# Altium footprint library PCB_LIB.PcbLib: 86 footprints (part 6 of 6)
Each footprint in its own frame and in the unit in brackets; x right, y up, seen from the top. Pads: shape width x height; smd on the part's side, far side on the other; paste and mask are expansions set on the pad; w line width, h text height; cw(c..) or ccw(c..) is an arc to the next point about the centre after c.
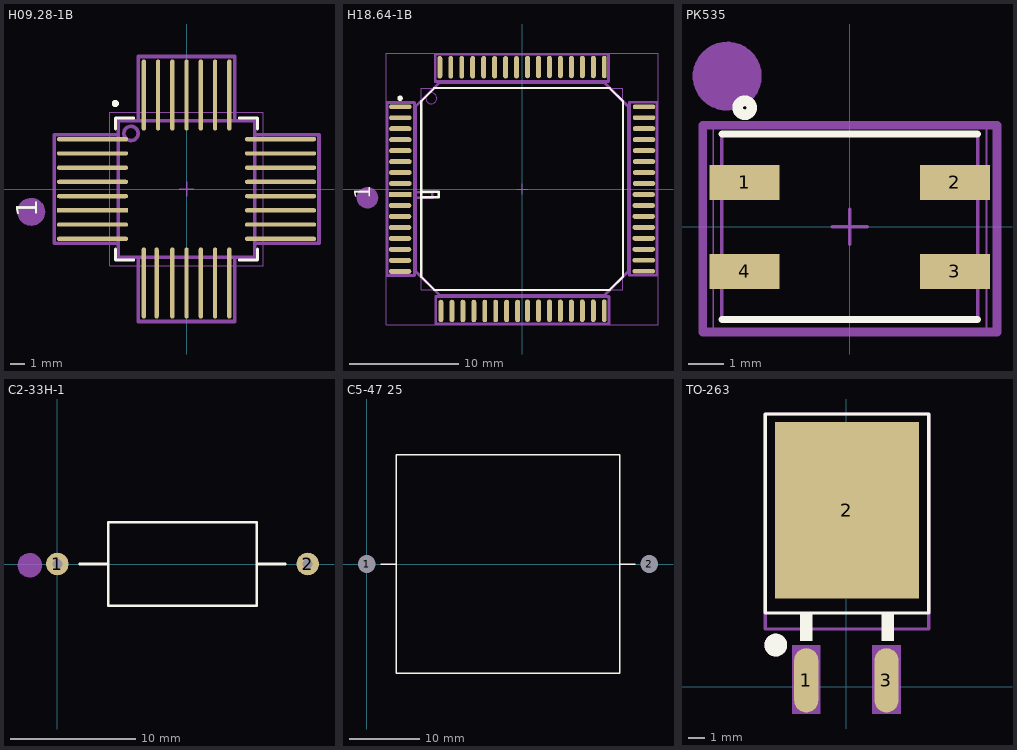
[diagram p5: the footprints below, top view; thin cyan lines are the x and y axes]

## Н09.28-1В [mm] "QFN, 30-Leads, Body 9,39x9,39mm, Pitch 1,00mm, IPC Medium Density"
height 2.9
pads (30):
  rect 5x0.3 smd: 1(-6.6,-1.5)
  oval 5x0.3 smd: 2(-6.6,-2.5) 3(-6.6,-3.5) 11(6.6,-2.5) 12(6.6,-1.5) 13(6.6,-0.5) 14(6.6,0.5) 15(6.6,1.5) 16(6.6,2.5) 17(6.6,3.5) 25(-6.6,2.5) 26(-6.6,1.5) 27(-6.6,0.5) 28(-6.6,-0.5) ""(-6.6,3.5) ""(6.6,-3.5)
  oval 0.3x5 smd: 4(-3,-6.6) 5(-2.1,-6.6) 6(-1,-6.6) 7(0,-6.6) 8(1,-6.6) 9(2,-6.6) 10(3,-6.6) 18(3,6.6) 19(2,6.6) 20(1,6.6) 21(0,6.6) 22(-1,6.6) 23(-2,6.6) 24(-3,6.6)
Top Overlay:
  circle w0.25: c-5,6 r0.125
  lines w0.2: -4.98,-4.2 -4.98,-4.98 -3.7,-4.98 ; -4.98,4.2 -4.98,4.98 -3.7,4.98 ; 3.7,-4.98 4.98,-4.98 4.98,-4.2 ; 3.7,4.98 4.98,4.98 4.98,4.2
  text "1" at -10,-2 h2.5
Top Sborka:
  circle w0.25: c-10.9,-1.6 r0.704
  circle w0.25: c-10.9,-1.6 r0.292
  circle w0.25: c-10.9,-1.6 r0.861
  circle w0.25: c-10.9,-1.6 r0.506
  circle w0.25: c-10.9,-1.6 r0.09
  circle w0.25: c-3.9,3.9 r0.5
  circle w0.8: c-10.9,-1.6 r0.4
  lines w0.25: -9.3,-3.8 -4.8,-3.8 -4.8,3.8 -9.3,3.8 -9.3,-3.8 ; -4.8,-4.8 4.8,-4.8 4.8,4.8 -4.8,4.8 -4.8,-4.8 ; -3.4,-9.3 -3.4,-4.8 3.4,-4.8 3.4,-9.3 -3.4,-9.3 ; -3.4,4.8 -3.4,9.3 3.4,9.3 3.4,4.8 -3.4,4.8 ; 4.8,-3.8 9.3,-3.8 9.3,3.8 4.8,3.8 4.8,-3.8
Mechanical 13:
  circle w0.1: c-3.93,3.93 r0.5
  lines w0.1: -4.83,-4.83 4.83,-4.83 4.83,4.83 -4.83,4.83 -4.83,-4.83
Mechanical 15:
  lines w0.05: -5.375,-5.375 5.375,-5.375 5.375,5.375 -5.375,5.375 -5.375,-5.375
  lines w0.1: -0.5,0 0.5,0 ; 0,-0.5 0,0.5
Top Designator (Mech16):
  text ".Designator" at -5.15,-0.547 h2.5
3D body: height 2.9, standoff 0.2, extent -4.83,-4.83 4.83,4.83

## Н18.64-1В [mm] "CQFP, 64-Leads, Body 23,40x23,40mm, Pitch 1,00mm, IPC Medium Density"
height 2.9
pads (64):
  rect 2.05x0.45 smd: 1(-11.125,-0.508)
  oval 2.05x0.45 smd: 2(-11.125,-1.508) 3(-11.125,-2.508) 4(-11.125,-3.508) 5(-11.125,-4.508) 6(-11.125,-5.508) 7(-11.125,-6.508) 8(-11.125,-7.508) 25(11.1,-7.5) 26(11.1,-6.5) 27(11.1,-5.5) 28(11.1,-4.5) 29(11.1,-3.5) 30(11.1,-2.5) 31(11.1,-1.5) 32(11.1,-0.5) 33(11.125,0.5) 34(11.125,1.5) 35(11.125,2.5) 36(11.125,3.5) 37(11.125,4.5) 38(11.125,5.5) 39(11.125,6.5) 40(11.125,7.5) 57(-11.1,7.5) 58(-11.1,6.5) 59(-11.1,5.5) 60(-11.1,4.5) 61(-11.1,3.5) 62(-11.1,2.5) 63(-11.1,1.5) 64(-11.1,0.5)
  oval 0.45x2.05 smd: 9(-7.4,-11.125) 10(-6.4,-11.125) 11(-5.4,-11.125) 12(-4.4,-11.125) 13(-3.4,-11.125) 14(-2.4,-11.125) 15(-1.4,-11.125) 16(-0.4,-11.125) 17(0.5,-11.1) 18(1.5,-11.1) 19(2.5,-11.1) 20(3.5,-11.1) 21(4.5,-11.1) 22(5.5,-11.1) 23(6.5,-11.1) 24(7.5,-11.1) 41(7.5,11.125) 42(6.5,11.125) 43(5.5,11.125) 44(4.5,11.125) 45(3.5,11.125) 46(2.5,11.125) 47(1.5,11.125) 48(0.5,11.125) 49(-0.5,11.1) 50(-1.5,11.1) 51(-2.5,11.1) 52(-3.5,11.1) 53(-4.5,11.1) 54(-5.5,11.1) 55(-6.5,11.1) 56(-7.5,11.1)
Top Overlay:
  circle w0.25: c-11.125,8.275 r0.125
  lines w0.2: -9.1,-0.75 -7.6,-0.75 -7.6,-0.25 -9.1,-0.25 ; -9.2,-8 -8,-9.2 8,-9.2 9.2,-8 9.2,8 8,9.2 -8,9.2 -9.2,8 -9.2,-8
  text "1" at -13.325,-0.929 h2.5
Top Sborka:
  circle w0.25: c-14.1,-0.8 r0.09
  circle w0.25: c-14.1,-0.8 r0.506
  circle w0.25: c-14.1,-0.8 r0.861
  circle w0.25: c-14.1,-0.8 r0.292
  circle w0.25: c-14.1,-0.8 r0.704
  lines w0.25: -9.7,-0.8 -8.2,-0.8 -8.2,-0.3 -9.7,-0.3 ; -12.3,-7.9 -9.8,-7.9 -9.8,7.9 -12.3,7.9 -12.3,-7.9 ; -9.7,-7.5 -7.5,-9.7 7.5,-9.7 9.7,-7.5 9.7,7.5 7.5,9.7 -7.5,9.7 -7.523,9.7 -9.7,7.523 -9.7,-7.5 ; -7.923,9.8 -7.923,12.3 7.877,12.3 7.877,9.8 -7.923,9.8 ; -7.877,-12.3 -7.877,-9.8 7.923,-9.8 7.923,-12.3 -7.877,-12.3 ; 9.8,-7.877 12.3,-7.877 12.3,7.923 9.8,7.923 9.8,-7.877
Mechanical 13:
  circle w0.1: c-8.275,8.275 r0.5
  lines w0.1: -9.175,-9.175 9.175,-9.175 9.175,9.175 -9.175,9.175 -9.175,-9.175
Mechanical 15:
  lines w0.05: -12.4,-12.4 12.4,-12.4 12.4,12.4 -12.4,12.4 -12.4,-12.4
  lines w0.1: -0.5,0 0.5,0 ; 0,-0.5 0,0.5
Top Designator (Mech16):
  text ".Designator" at -5.15,-0.547 h2.5
3D body: height 2.9, standoff 0.2, extent -9.175,-9.175 9.175,9.175

## РК535 [mm] "DFN, 4-Leads, Body 5,00x7,00mm, Pitch 6,00mm, IPC Medium Density"
height 1.35
pads (4):
  rect 2x1 smd: 1(-3,1.27) 2(3,1.27) 3(3,-1.27) 4(-3,-1.27)
Top Overlay:
  circle w0.3: c-3,3.4 r0.2
  lines w0.2: -3.65,-2.65 3.65,-2.65 ; -3.65,2.65 3.65,2.65
Top Sborka:
  circle w0.25: c-3.5,4.3 r0.09
  circle w0.25: c-3.5,4.3 r0.704
  circle w0.25: c-3.5,4.3 r0.292
  circle w0.25: c-3.5,4.3 r0.861
  circle w0.25: c-3.5,4.3 r0.506
  circle w0.8: c-3.5,4.3 r0.4
  lines w0.25: -4.2,-3 4.2,-3 4.2,2.9 -4.2,2.9 -4.2,-3
Mechanical 13:
  lines w0.1: -3.65,-2.65 -3.65,2.65 3.65,2.65 3.65,-2.65 -3.65,-2.65
Mechanical 15:
  lines w0.05: -3.9,-2.9 -3.9,2.9 3.9,2.9 3.9,-2.9 -3.9,-2.9
  lines w0.1: -0.5,0 0.5,0 ; 0,-0.5 0,0.5
Top Designator (Mech16):
  text ".Designator" at -5.15,-0.547 h2.5
3D body: height 1.35, standoff 0, extent -3.65,-2.65 3.65,2.65

## С2-33Н-1 [mm]
pads (2):
  round 1.8 hole 0.8: 1(0,0) 2(20,0)
Top Overlay:
  lines w0.2: 1.8,0 4.075,0 ; 15.925,0 18.2,0 ; 4.075,0 4.075,-3.35 15.925,-3.35 15.925,3.35 4.075,3.35 4.075,0
Top Sborka:
  circle w0.8: c-2.2,-0.1 r0.4
  circle w0.25: c-2.2,-0.1 r0.09
  circle w0.25: c-2.2,-0.1 r0.506
  circle w0.25: c-2.2,-0.1 r0.861
  circle w0.25: c-2.2,-0.1 r0.292
  circle w0.25: c-2.2,-0.1 r0.704
Top Designator (Mech16):
  text ".Designator" at 3.758,-0.547 h2.5

## С5-47 25 [mm]
pads (2):
  round 2 hole 2.5: 1(0,0) 2(40,0)
Top Overlay:
  lines w0.2: 2,0 4.175,0 ; 35.825,0 38,0 ; 4.175,0 4.175,-15.5 35.825,-15.5 35.825,15.5 4.175,15.5 4.175,0
Top Designator (Mech16):
  text ".Designator" at 14.85,-0.547 h2.5

## ТО-263 [mm] "D2PAK-3, FMG500_3_S1000"
pads (3):
  oval 1.5x4 smd: 1(-2.5,0.4) 3(2.5,0.4)
  rect 9x11 smd: 2(0.04,11)
Top Overlay:
  circle w0.7: c-4.4,2.6 r0.359
  rectangle: -2.881,2.851 -2.119,4.575
  rectangle: 2.199,2.851 2.961,4.575
  lines w0.2: 5.1,17 -5.06,17 -5.06,4.6 5.14,4.6 5.14,17
Top Sborka:
  circle w0.7: c-4.4,2.6 r0.359
  rectangle: -3.4,-1.7 -1.6,2.6
  rectangle: 1.6,-1.7 3.4,2.6
  lines w0.2: 5.1,17 -5.06,17 -5.06,3.6 5.14,3.6 5.14,17
Top Designator (Mech16):
  text ".Designator" at -5.11,10.453 h2.5
3D body "User Library-D2PAK.step": height 4.83, standoff 0, extent -5.233,-0.388 5.437,15.492